# Altium schematic symbol library SCH - POWER - LINEAR VREG - TI LM2990T-12.SchLib: 1 symbol
Pins are listed as number, name and electrical type; pins without a type are passive.

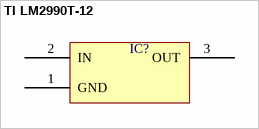
[diagram p0: symbol TI LM2990T-12]

## TI LM2990T-12
designator IC?  (value not drawn)
pins: 1 GND, 2 IN, 3 OUT